# EAGLE library part TEMPLATE_ARGON/BORON/XENON (library cool_safe_lib)
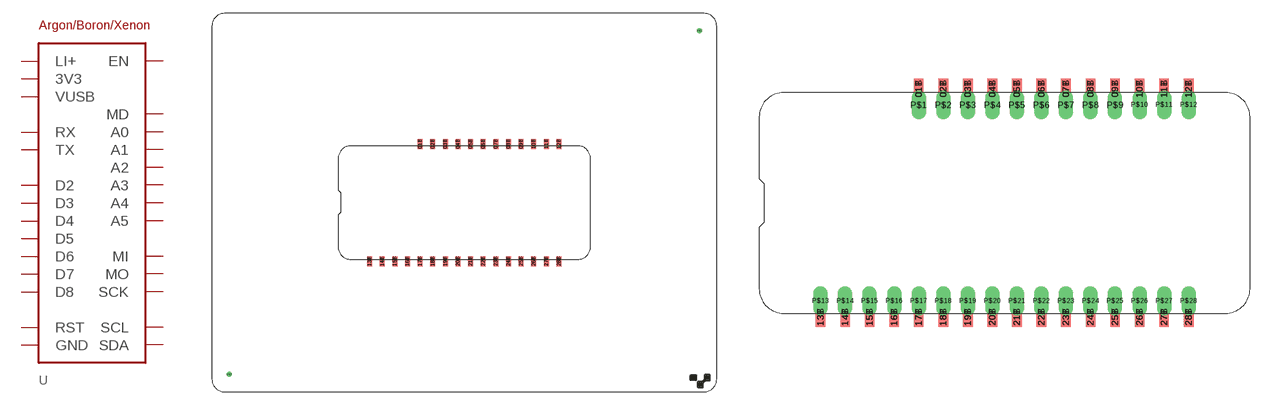
[diagram p0: symbol with the pads of FEATHER; footprints FEATHER, FEATHER_ONLY]

Designator prefix -

## TEMPLATE_ARGON/BORON/XENON  [FEATHER]
01B  LI+
01T  LI+
02B  EN
02T  EN
03B  VUSB
03T  VUSB
04B  D8
04T  D8
05B  D7
05T  D7
06B  D6
06T  D6
07B  D5
07T  D5
08B  D4
08T  D4
09B  D3
09T  D3
10B  D2
10T  D2
11B  SCL
11T  SCL
12B  SDA
12T  SDA
13B  RST
13T  RST
14B  3V3
14T  3V3
15B  MD
15T  MD
16B  GND
16T  GND
17B  A0
17T  A0
18B  A1
18T  A1
19B  A2
19T  A2
20B  A3
20T  A3
21B  A4
21T  A4
22B  A5
22T  A5
23B  SCK
23T  SCK
24B  MO
24T  MO
25B  MI
25T  MI
26B  RX
26T  RX
27B  TX
27T  TX

## TEMPLATE_ARGON/BORON/XENONFEATHER_ONLY  [FEATHER_ONLY]
01B  LI+
01T  LI+
02B  EN
02T  EN
03B  VUSB
03T  VUSB
04B  D8
04T  D8
05B  D7
05T  D7
06B  D6
06T  D6
07B  D5
07T  D5
08B  D4
08T  D4
09B  D3
09T  D3
10B  D2
10T  D2
11B  SCL
11T  SCL
12B  SDA
12T  SDA
13B  RST
13T  RST
14B  3V3
14T  3V3
15B  MD
15T  MD
16B  GND
16T  GND
17B  A0
17T  A0
18B  A1
18T  A1
19B  A2
19T  A2
20B  A3
20T  A3
21B  A4
21T  A4
22B  A5
22T  A5
23B  SCK
23T  SCK
24B  MO
24T  MO
25B  MI
25T  MI
26B  RX
26T  RX
27B  TX
27T  TX
P$1  LI+
P$2  EN
P$3  VUSB
P$4  D8
P$5  D7
P$6  D6
P$7  D5
P$8  D4
P$9  D3
P$10  D2
P$11  SCL
P$12  SDA
P$13  RST
P$14  3V3
P$15  MD
P$16  GND
P$17  A0
P$18  A1
P$19  A2
P$20  A3
P$21  A4
P$22  A5
P$23  SCK
P$24  MO
P$25  MI
P$26  RX
P$27  TX

## Footprint FEATHER (pad centres in mm)
smd 1.016 x 2.032 bottom: 01B 41.91,49.93; 02B 44.45,49.93; 03B 46.99,49.93; 04B 49.53,49.93; 05B 52.07,49.93; 06B 54.61,49.93; 07B 57.15,49.93; 08B 59.69,49.93; 09B 62.23,49.93; 10B 64.77,49.93; 11B 67.31,49.93; 12B 69.85,49.93; 13B 31.75,26.289; 14B 34.29,26.289; 15B 36.83,26.289; 16B 39.37,26.289; 17B 41.91,26.289; 18B 44.45,26.289; 19B 46.99,26.289; 20B 49.53,26.289; 21B 52.07,26.289; 22B 54.61,26.289; 23B 57.15,26.289; 24B 59.69,26.289; 25B 62.23,26.289; 26B 64.77,26.289; 27B 67.31,26.289; 28B 69.85,26.289
smd 1.016 x 2.032: 01T 41.91,49.93; 02T 44.45,49.93; 03T 46.99,49.93; 04T 49.53,49.93; 05T 52.07,49.93; 06T 54.61,49.93; 07T 57.15,49.93; 08T 59.69,49.93; 09T 62.23,49.93; 10T 64.77,49.93; 11T 67.31,49.93; 12T 69.85,49.93; 13T 31.75,26.289; 14T 34.29,26.289; 15T 36.83,26.289; 16T 39.37,26.289; 17T 41.91,26.289; 18T 44.45,26.289; 19T 46.99,26.289; 20T 49.53,26.289; 21T 52.07,26.289; 22T 54.61,26.289; 23T 57.15,26.289; 24T 59.69,26.289; 25T 62.23,26.289; 26T 64.77,26.289; 27T 67.31,26.289; 28T 69.85,26.289
drill 0.3 pad 1: P$1 3.5,3.5; P$2 98.1,72.7

## Footprint FEATHER_ONLY (pad centres in mm)
smd 1.016 x 2.032 bottom: 01B 17.78,25.8; 02B 20.32,25.8; 03B 22.86,25.8; 04B 25.4,25.8; 05B 27.94,25.8; 06B 30.48,25.8; 07B 33.02,25.8; 08B 35.56,25.8; 09B 38.1,25.8; 10B 40.64,25.8; 11B 43.18,25.8; 12B 45.72,25.8; 13B 7.62,2.159; 14B 10.16,2.159; 15B 12.7,2.159; 16B 15.24,2.159; 17B 17.78,2.159; 18B 20.32,2.159; 19B 22.86,2.159; 20B 25.4,2.159; 21B 27.94,2.159; 22B 30.48,2.159; 23B 33.02,2.159; 24B 35.56,2.159; 25B 38.1,2.159; 26B 40.64,2.159; 27B 43.18,2.159; 28B 45.72,2.159
smd 1.016 x 2.032: 01T 17.78,25.8; 02T 20.32,25.8; 03T 22.86,25.8; 04T 25.4,25.8; 05T 27.94,25.8; 06T 30.48,25.8; 07T 33.02,25.8; 08T 35.56,25.8; 09T 38.1,25.8; 10T 40.64,25.8; 11T 43.18,25.8; 12T 45.72,25.8; 13T 7.62,2.159; 14T 10.16,2.159; 15T 12.7,2.159; 16T 15.24,2.159; 17T 17.78,2.159; 18T 20.32,2.159; 19T 22.86,2.159; 20T 25.4,2.159; 21T 27.94,2.159; 22T 30.48,2.159; 23T 33.02,2.159; 24T 35.56,2.159; 25T 38.1,2.159; 26T 40.64,2.159; 27T 43.18,2.159; 28T 45.72,2.159
drill 1.016 long: P$1 17.78,24.13; P$2 20.32,24.13; P$3 22.86,24.13; P$4 25.4,24.13; P$5 27.94,24.13; P$6 30.48,24.13; P$7 33.02,24.13; P$8 35.56,24.13; P$9 38.1,24.13; P$10 40.64,24.13; P$11 43.18,24.13; P$12 45.72,24.13; P$13 7.62,3.81; P$14 10.16,3.81; P$15 12.7,3.81; P$16 15.24,3.81; P$17 17.78,3.81; P$18 20.32,3.81; P$19 22.86,3.81; P$20 25.4,3.81; P$21 27.94,3.81; P$22 30.48,3.81; P$23 33.02,3.81; P$24 35.56,3.81; P$25 38.1,3.81; P$26 40.64,3.81; P$27 43.18,3.81; P$28 45.72,3.81